# EAGLE library part RMF12 (library selfmade)
HOPE RF RMF12 Sender und Empfänger, erhältlich bei Pollin
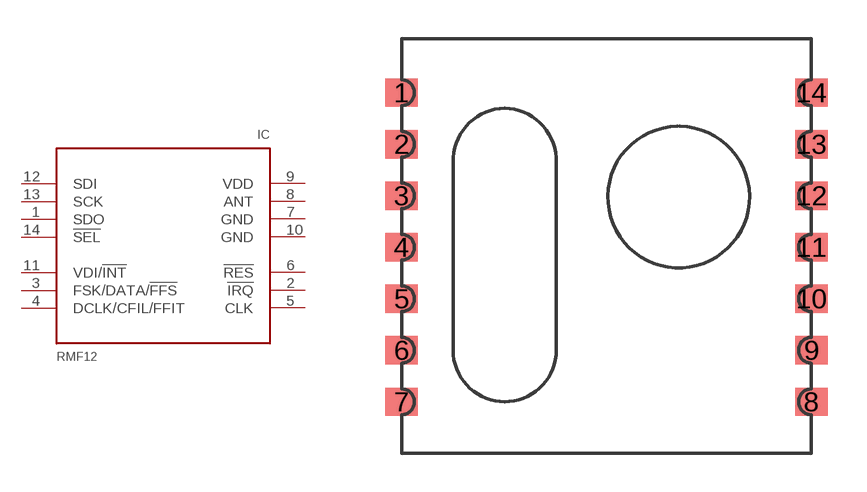
[diagram p0: symbol with the pads of RMF*-S; footprint RMF*-S]

Designator prefix IC

## RMF12  [RMF*-S]
1  SDO  out
2  !IRQ  out
3  FSK/DATA/!FFS
4  DCLK/CFIL/FFIT
5  CLK  out
6  !RES
7  GND  sup
8  ANT  out
9  VDD  sup
10  GND  sup
11  VDI/!INT
12  SDI  in
13  SCK  in
14  !SEL  in

## Footprint RMF*-S (pad centres in mm)
HOPE RF Module erhältlich bei Pollin: RMF01 (nur Empfänger) RMF02 (nur Sender) RMF12 (Sender u. Empfänger)
smd 1.27 x 1.1: 1 0,14; 2 0,12; 3 0,10; 4 0,8; 5 0,6; 6 0,4; 7 0,2; 8 15.9,2; 9 15.9,4; 10 15.9,6; 11 15.9,8; 12 15.9,10; 13 15.9,12; 14 15.9,14